# Altium schematic symbol library lib.SchLib: 16 symbols
Pins are listed as number, name and electrical type; pins without a type are passive.

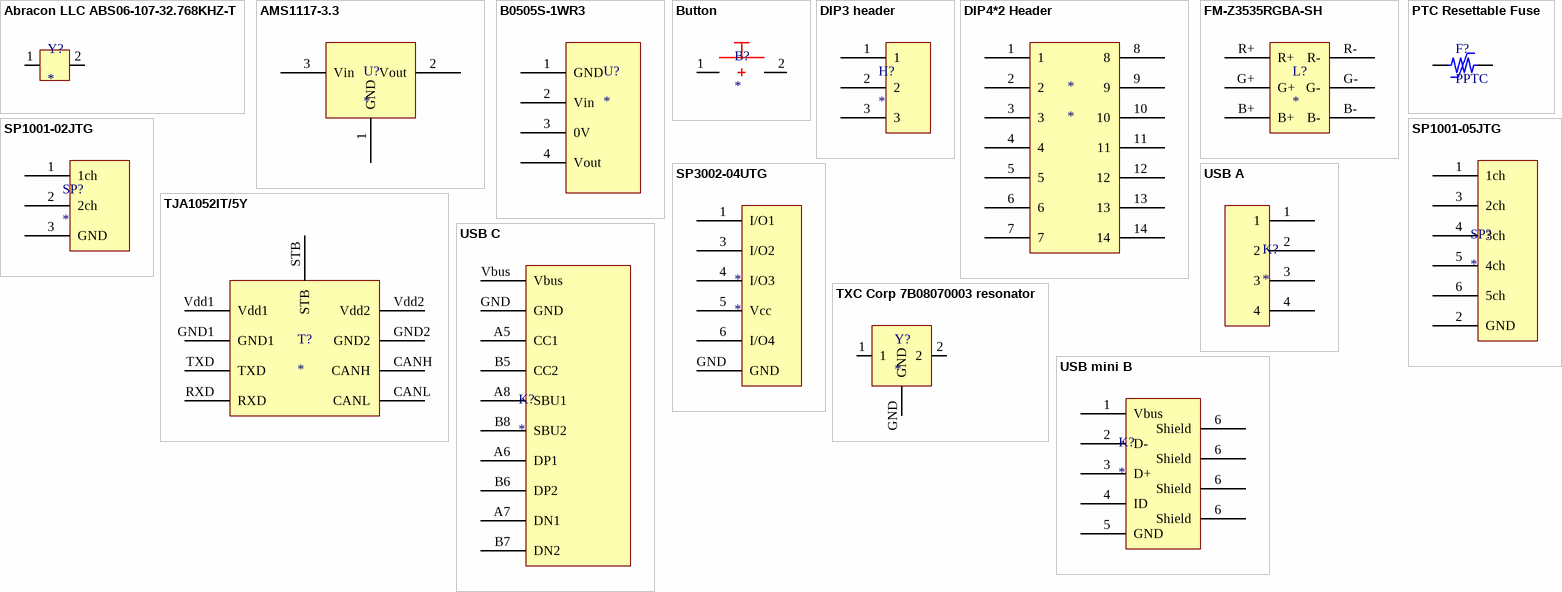
[diagram p0: symbols Abracon LLC ABS06-107-32.768KHZ-T to USB mini B]

## Abracon LLC ABS06-107-32.768KHZ-T
designator Y?
ComponentLink1Description: New link; ComponentLink1URL: https://lcsc.com/product-detail/SMD-Crystal-Resonators_Abracon-LLC_ABS06-107-32-768KHZ-T_Abracon-LLC-ABS06-107-32-768KHZ-T_C276418.html
footprint SMD-2012
pins: 1, 2

## AMS1117-3.3
designator U?
ComponentLink1Description: New link; ComponentLink1URL: https://lcsc.com/product-detail/Low-Dropout-Regulators-LDO_Slkor-SLKORMICRO-Elec-AMS1117-3-3_C426566.html; ComponentLink2Description: New link; ComponentLink2URL: https://lcsc.com/product-detail/Low-Dropout-Regulators-LDO_PUOLOP-AMS1117-3-3_C351784.html
footprint AMS1117
pins: 1 GND, 2 Vout, 3 Vin

## B0505S-1WR3
designator U?
ComponentLink1Description: New link; ComponentLink1URL: https://lcsc.com/product-detail/Power-Modules_B0505S-1WR3_C131038.html
footprint Dip4 package
pins: 1 GND, 2 Vin, 3 0V, 4 Vout

## Button
designator B?
ComponentLink1Description: New link; ComponentLink1URL: https://lcsc.com/product-detail/Tactile-Switches_HYP-Hongyuan-Precision-1TS002B-2500-4300-CT_C255788.html
footprint Button 3.5x6x4.3mm
pins: 1, 2

## DIP3 header
designator H?
footprint DIP3
pins: 1, 2, 3

## DIP4*2 Header
designator *
footprint DIP7*2
pins: 1, 2, 3, 4, 5, 6, 7, 8, 9, 10, 11, 12, 13, 14

## FM-Z3535RGBA-SH
designator L?
ComponentLink1Description: New link; ComponentLink1URL: https://lcsc.com/product-detail/Light-Emitting-Diodes-LED_SMDLED-120-480mcd_C110903.html
footprint Z3535RGBA
pins: B+, B-, G+, G-, R+, R-

## PTC Resettable Fuse
designator F?, comment PPTC
footprint PTC 0603
pins: 1, 2

## SP1001-02JTG
designator SP?
footprint SC70-3
pins: 1 1ch, 2 2ch, 3 GND

## SP1001-05JTG
designator SP?
footprint SC70-6
pins: 1 1ch, 2 GND, 3 2ch, 4 3ch, 5 4ch, 6 5ch

## SP3002-04UTG
designator *
ComponentLink1Description: New link; ComponentLink1URL: https://lcsc.com/product-detail/Others_Littelfuse_SP3002-04UTG_Littelfuse-SP3002-04UTG_C207277.html
footprint uDFN-6
pins: 1 I/O1, 3 I/O2, 4 I/O3, 5 Vcc, 6 I/O4, GND

## TJA1052IT/5Y
designator T?
ComponentLink1Description: New link; ComponentLink1URL: https://lcsc.com/product-detail/CAN-ICs_NXP-Semicon_TJA1052IT-5Y_NXP-Semicon-TJA1052IT-5Y_C92210.html
footprint TJA1052
pins: CANH, CANL, GND1, GND2, RXD, STB, TXD, Vdd1, Vdd2

## TXC Corp 7B08070003 resonator
designator Y?
ComponentLink1Description: New link; ComponentLink1URL: https://lcsc.com/product-detail/_TXC-Corp-7B08070003_C337573.html
footprint SMD-5032 resonator
pins: 1, 2, GND

## USB A
designator K?
footprint USB A
pins: 1, 2, 3, 4

## USB C
designator K?
footprint USB type C
pins: A5 CC1, A6 DP1, A7 DN1, A8 SBU1, B5 CC2, B6 DP2, B7 DN2, B8 SBU2, GND, Vbus

## USB mini B
designator K?
footprint USB mini B (C105424)
pins: 1 Vbus, 2 D-, 3 D+, 4 ID, 5 GND, 6 Shield, 6 Shield, 6 Shield, 6 Shield